# EAGLE library part AS3935 (library AMS)
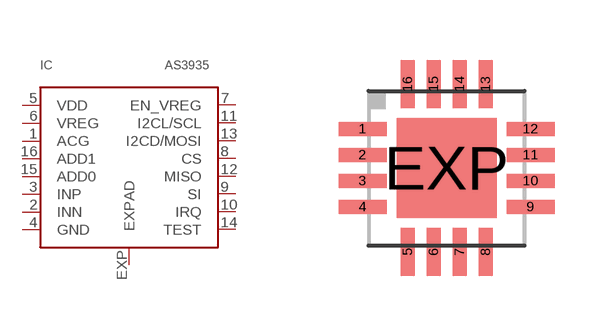
[diagram p0: symbol with the pads of 16LDMLPQ; footprint 16LDMLPQ]

Designator prefix IC

## AS3935  [16LDMLPQ]
1  ACG
2  INN
3  INP
4  GND
5  VDD
6  VREG
7  EN_VREG
8  CS
9  SI
10  IRQ
11  I2CL/SCL
12  MISO
13  I2CD/MOSI
14  TEST  pas
15  ADD0
16  ADD1
EXP  EXPAD

## Footprint 16LDMLPQ (pad centres in mm)
smd 1.2 x 0.35: 1 -2.1,0.975; 2 -2.1,0.325; 3 -2.1,-0.325; 4 -2.1,-0.975; 9 2.1,-0.975; 10 2.1,-0.325; 11 2.1,0.325; 12 2.1,0.975
smd 0.35 x 1.2: 5 -0.975,-2.1; 6 -0.325,-2.1; 7 0.325,-2.1; 8 0.975,-2.1; 13 0.975,2.1; 14 0.325,2.1; 15 -0.325,2.1; 16 -0.975,2.1
smd 2.5 x 2.5: EXP 0,0